# Altium footprint library OltestLib_popadjuk.PcbLib: 113 footprints (part 5 of 8)
Each footprint in its own frame and in the unit in brackets; x right, y up, seen from the top. Pads: shape width x height; smd on the part's side, far side on the other; paste and mask are expansions set on the pad; w line width, h text height; cw(c..) or ccw(c..) is an arc to the next point about the centre after c.
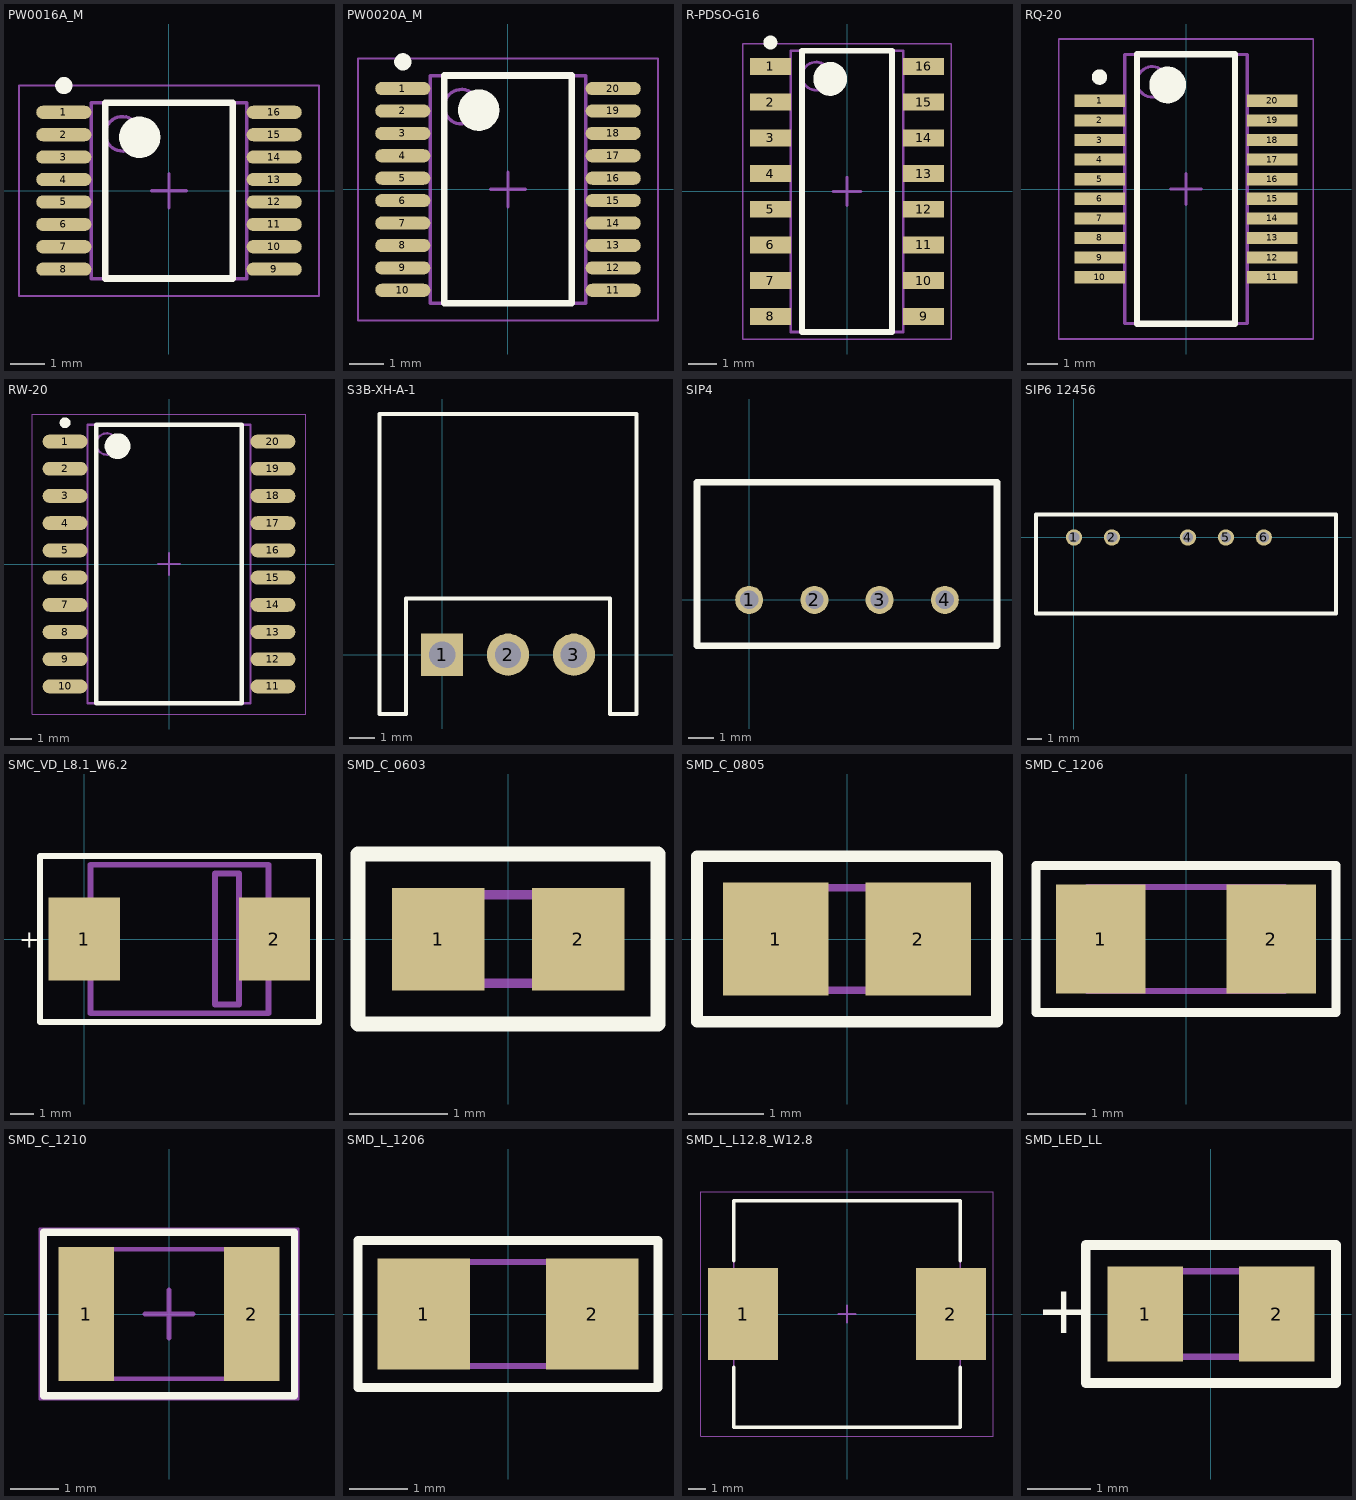
[diagram p4: the footprints below, top view; thin cyan lines are the x and y axes]

## PW0016A_M [mm] "SOP, 16-Leads, Body 5.1x4.5mm, Pitch 0.65mm, IPC Low Density"
height 1.2
pads (16):
  oval 1.6x0.381 smd: 1(-3.05,2.275) 2(-3.05,1.625) 3(-3.05,0.975) 4(-3.05,0.325) 5(-3.05,-0.325) 6(-3.05,-0.975) 7(-3.05,-1.625) 8(-3.05,-2.275) 9(3.05,-2.275) 10(3.05,-1.625) 11(3.05,-0.975) 12(3.05,-0.325) 13(3.05,0.325) 14(3.05,0.975) 15(3.05,1.625) 16(3.05,2.275)
Top Overlay:
  circle w0.25: c-3.05,3.05 r0.125
  circle w0.6: c-0.85,1.55 r0.3
  lines w0.2: -1.85,-2.55 -1.85,2.55 1.85,2.55 1.85,-2.55 -1.85,-2.55
Mechanical 13:
  circle w0.1: c-1.35,1.65 r0.5
  lines w0.1: -2.25,-2.55 -2.25,2.55 2.25,2.55 2.25,-2.55 -2.25,-2.55
Mechanical 15:
  lines w0.05: -4.35,-3.05 -4.35,3.05 4.35,3.05 4.35,-3.05 -4.35,-3.05
  lines w0.1: -0.5,0 0.5,0 ; 0,-0.5 0,0.5
3D body "PW0016AakaMTC16.stp": height 1.2, standoff 0, extent -3.21,-2.5 3.21,2.5

## PW0020A_M [mm] "SOP, 20-Leads, Body 6.6x4.5mm, Pitch 0.65mm, IPC Low Density"
height 1.2
pads (20):
  oval 1.6x0.381 smd: 1(-3.05,2.925) 2(-3.05,2.275) 3(-3.05,1.625) 4(-3.05,0.975) 5(-3.05,0.325) 6(-3.05,-0.325) 7(-3.05,-0.975) 8(-3.05,-1.625) 9(-3.05,-2.275) 10(-3.05,-2.925) 11(3.05,-2.925) 12(3.05,-2.275) 13(3.05,-1.625) 14(3.05,-0.975) 15(3.05,-0.325) 16(3.05,0.325) 17(3.05,0.975) 18(3.05,1.625) 19(3.05,2.275) 20(3.05,2.925)
Top Overlay:
  circle w0.6: c-0.85,2.3 r0.3
  circle w0.25: c-3.05,3.7 r0.125
  lines w0.2: -1.85,-3.3 1.85,-3.3 1.85,3.3 -1.85,3.3 -1.85,-3.3
Mechanical 13:
  circle w0.1: c-1.35,2.4 r0.5
  lines w0.1: -2.25,-3.3 2.25,-3.3 2.25,3.3 -2.25,3.3 -2.25,-3.3
Mechanical 15:
  lines w0.05: -4.35,-3.8 4.35,-3.8 4.35,3.8 -4.35,3.8 -4.35,-3.8
  lines w0.1: -0.5,0 0.5,0 ; 0,-0.5 0,0.5
3D body "PW0020AakaMTC20.stp": height 1.2, standoff 0, extent -3.21,-3.25 3.21,3.25

## R-PDSO-G16 [mm] "SOIC, 16-Leads, Body 9,90x3,90mm, Pitch 1,27mm, IPC Medium Density"
height 1.75
pads (16):
  rect 1.45x0.6 smd: 1(-2.725,4.445) 2(-2.725,3.175) 3(-2.725,1.905) 4(-2.725,0.635) 5(-2.725,-0.635) 6(-2.725,-1.905) 7(-2.725,-3.175) 8(-2.725,-4.445) 9(2.725,-4.445) 10(2.725,-3.175) 11(2.725,-1.905) 12(2.725,-0.635) 13(2.725,0.635) 14(2.725,1.905) 15(2.725,3.175) 16(2.725,4.445)
Top Overlay:
  circle w0.25: c-2.725,5.295 r0.125
  circle w0.6: c-0.6,4 r0.3
  lines w0.2: -1.6,-5 -1.6,5 1.6,5 1.6,-5 -1.6,-5
Mechanical 13:
  circle w0.1: c-1.1,4.1 r0.5
  lines w0.1: -2,-5 -2,5 2,5 2,-5 -2,-5
Mechanical 15:
  lines w0.05: -3.7,-5.25 -3.7,5.25 3.7,5.25 3.7,-5.25 -3.7,-5.25
  lines w0.1: -0.5,0 0.5,0 ; 0,-0.5 0,0.5
3D body: height 1.75, standoff 0.25, extent -2,-5 2,5

## RQ-20 [mm] "QSOP, 20-Leads, Body 8,66x3,91mm, Pitch 0,64mm, IPC Low Density"
height 1.75
pads (20):
  rect 1.65x0.4 smd: 1(-2.825,2.88) 2(-2.825,2.24) 3(-2.825,1.6) 4(-2.825,0.96) 5(-2.825,0.32) 6(-2.825,-0.32) 7(-2.825,-0.96) 8(-2.825,-1.6) 9(-2.825,-2.24) 10(-2.825,-2.88) 11(2.825,-2.88) 12(2.825,-2.24) 13(2.825,-1.6) 14(2.825,-0.96) 15(2.825,-0.32) 16(2.825,0.32) 17(2.825,0.96) 18(2.825,1.6) 19(2.825,2.24) 20(2.825,2.88)
Top Overlay:
  circle w0.25: c-2.825,3.655 r0.125
  circle w0.6: c-0.6,3.4 r0.3
  lines w0.2: -1.6,-4.4 -1.6,4.4 1.6,4.4 1.6,-4.4 -1.6,-4.4
Mechanical 13:
  circle w0.1: c-1.1,3.5 r0.5
  lines w0.1: -2,-4.4 -2,4.4 2,4.4 2,-4.4 -2,-4.4
Mechanical 15:
  lines w0.05: -4.15,-4.9 -4.15,4.9 4.15,4.9 4.15,-4.9 -4.15,-4.9
  lines w0.1: -0.5,0 0.5,0 ; 0,-0.5 0,0.5
3D body: height 1.75, standoff 0.25, extent -2,-4.4 2,4.4

## RW-20 [mm] "SOIC, 20-Leads, Body 12,80x7,50mm, Pitch 1,27mm, IPC Low Density"
height 2.65
pads (20):
  oval 2.1x0.65 smd: 1(-4.85,5.715) 2(-4.85,4.445) 3(-4.85,3.175) 4(-4.85,1.905) 5(-4.85,0.635) 6(-4.85,-0.635) 7(-4.85,-1.905) 8(-4.85,-3.175) 9(-4.85,-4.445) 10(-4.85,-5.715) 11(4.85,-5.715) 12(4.85,-4.445) 13(4.85,-3.175) 14(4.85,-1.905) 15(4.85,-0.635) 16(4.85,0.635) 17(4.85,1.905) 18(4.85,3.175) 19(4.85,4.445) 20(4.85,5.715)
Top Overlay:
  circle w0.6: c-2.4,5.5 r0.3
  circle w0.25: c-4.85,6.59 r0.125
  lines w0.2: -3.4,-6.5 3.4,-6.5 3.4,6.5 -3.4,6.5 -3.4,-6.5
Mechanical 13:
  circle w0.1: c-2.9,5.6 r0.5
  lines w0.1: -3.8,-6.5 3.8,-6.5 3.8,6.5 -3.8,6.5 -3.8,-6.5
Mechanical 15:
  lines w0.05: -6.375,-7 6.375,-7 6.375,7 -6.375,7 -6.375,-7
  lines w0.1: -0.5,0 0.5,0 ; 0,-0.5 0,0.5
3D body "SOIC127P1030X265-20M.step": height 2.65, standoff 0, extent -5.162,-6.5 5.162,6.5

## S3B-XH-A-1 [mil]
pads (3):
  rect 64x64 / inner round 0 / far side rect 64x64 hole 40 mask+5: 1(0,0)
  round 64 / inner round 0 / far side round 64 hole 40 mask+5: 2(100,0) 3(200,0)
Top Overlay:
  lines w6: -95,-90 -95,365 295,365 295,-90 255,-90 255,85 -55,85 -55,-90 -95,-90
3D body "S3B-XH-A.STEP": height 243.13, standoff -132.86, extent -94.88,-90.38 294.88,362.38

## SIP4 [mil]
pads (4):
  round 43 / inner round 0 / far side round 43 hole 28 mask+4: 1(0,0) 2(100,0) 3(200,0) 4(300,0)
Top Overlay:
  lines w10: -80,-70 -80,180 380,180 380,-70 -40,-70 -80,-70
3D body: height 400, standoff 0, extent -79.98,-69.98 379.98,179.98

## SIP6 12456 [mil]
pads (5):
  round 43 / inner round 0 / far side round 43 hole 28 mask+4: 1(0,0) 2(100,0) 4(300,0) 5(400,0) 6(500,0)
Top Overlay:
  lines w10: -100,-200 630,-200 690,-200 690,60 -100,60 -100,-200
3D body: height 400, standoff 0, extent -99.98,-199.98 689.98,59.98

## SMC_VD_L8.1_W6.2 [mil] "Schottky Diode, 2-Leads, Body 8,13x6,52mm, IPC Low Density"
pads (2):
  rect 120x140 smd: 1(0,0) 2(320,0)
Top Overlay:
  lines w10: -75,-140 395,-140 395,140 -75,140 -75,0 -75,-140
  text "+" at -110,-15 h30
Mechanical 13:
  lines w10: 0,-60 0,0 0,60 10,60 10,20 10,-20 10,-60 0,-60 ; 10,-125 280,-125 310,-125 310,125 280,125 10,125 10,10 10,-41.25 10,-83.75 10,-125 ; 220,-110 220,110 260,110 260,-110 220,-110 ; 310,-60 320,-60 320,60 310,60 310,-10 310,-60
3D body: height 50, standoff 0, extent 0.02,-59.98 9.98,59.98
3D body: height 50, standoff 0, extent 310.02,-59.98 319.98,59.98
3D body: height 107, standoff 105, extent 220.02,-109.98 259.98,109.98
3D body: height 105, standoff 0, extent 10.02,-124.98 309.98,124.98

## SMD_C_0603 [mil] "Chip Capacitor, 2-Leads, Body 1,60x0,80mm, IPC Low Density"
height 31.5
pads (2):
  rect 37x41 smd: 1(-28,0) 2(28,0)
Top Overlay:
  lines w6: -60,-34 60,-34 60,34 -60,34 -60,-34
Mechanical 13:
  lines w3.94: -33.46,-17.72 -33.46,17.72 33.46,17.72 33.46,-17.72 -33.46,-17.72
3D body "CAPC1608X08M.step": height 31.5, standoff 0, extent -33.46,-17.72 33.46,17.72

## SMD_C_0805 [mil] "Chip Capacitor, 2-Leads, Body 2,00x1,25mm, IPC Low Density"
height 23.62
pads (2):
  rect 55x59 smd: 1(-37,0) 2(37,0)
Top Overlay:
  lines w6: -78,-43 78,-43 78,43 -78,43 -78,-43
Mechanical 13:
  lines w3.94: -41.34,-26.57 41.34,-26.57 41.34,26.57 -41.34,26.57 -41.34,-26.57
3D body "CAPC2012X06M.step": height 23.62, standoff 0, extent -41.34,-26.57 41.34,26.57

## SMD_C_1206 [mil] "Chip Capacitor, 2-Leads, Body 3,20x1,60mm, IPC Low Density"
height 62.99
pads (2):
  rect 61x74 smd: 1(-58,0) 2(58,0)
Top Overlay:
  lines w6: -102,-50 102,-50 102,50 -102,50 -102,-50
Mechanical 13:
  lines w3.94: -66.93,-35.43 -66.93,35.43 66.93,35.43 66.93,-35.43 -66.93,-35.43
3D body "CAPC3216X16M.step": height 62.99, standoff 0, extent -66.93,-35.43 66.93,35.43

## SMD_C_1210 [mm] "Chip Capacitor, 2-Leads, Body 3,20x2,50mm, IPC Low Density"
height 2.5
pads (2):
  rect 1.15x2.8 smd: 1(-1.725,0) 2(1.725,0)
Top Overlay:
  lines w0.152: -2.616,-1.702 -2.616,1.702 2.616,1.702 2.616,-1.702 -2.616,-1.702
Mechanical 13:
  lines w0.1: -1.75,-1.35 1.75,-1.35 1.75,1.35 -1.75,1.35 -1.75,-1.35
Mechanical 15:
  lines w0.05: -2.692,-1.778 2.692,-1.778 2.692,1.778 -2.692,1.778 -2.692,-1.778
  lines w0.1: -0.5,0 0.5,0 ; 0,-0.5 0,0.5
3D body "CAPC3225X25M.step": height 2.5, standoff 0, extent -1.75,-1.35 1.75,1.35

## SMD_L_1206 [mm] "Chip Inductor, 2-Leads, Body 3,20x1,60mm, IPC Low Density"
height 1.1
pads (2):
  rect 1.59x1.92 smd: 1(-1.455,0) 2(1.455,0)
Top Overlay:
  lines w0.152: -2.591,-1.27 -2.591,1.27 2.591,1.27 2.591,-1.27 -2.591,-1.27
Mechanical 13:
  lines w0.1: -1.7,-0.9 1.7,-0.9 1.7,0.9 -1.7,0.9 -1.7,-0.9
3D body "INDC3216X11M.step": height 1.1, standoff 0, extent -1.7,-0.9 1.7,0.9

## SMD_L_L12.8_W12.8 [mil] "Precision Wire Wound Inductor, 2-Leads, Body 12,80x12,80mm, IPC Low Density"
height 314.96
pads (2):
  rect 155x205 smd: 1(-231.3,0) 2(231.3,0)
Top Overlay:
  lines w7.87: -251.97,-118.11 -251.97,-251.97 251.97,-251.97 251.97,-118.11 ; -251.97,118.11 -251.97,251.97 251.97,251.97 251.97,118.11
Mechanical 13:
  lines w3.94: -251.97,-251.97 -251.97,251.97 251.97,251.97 251.97,-251.97 -251.97,-251.97
Mechanical 15:
  lines w1.97: -325,-271.65 -325,271.65 325,271.65 325,-271.65 -325,-271.65
  lines w3.94: -19.68,0 19.69,0 ; 0,-19.68 0,19.68
3D body "INDP128128X80M.step": height 318.9, standoff 0, extent -255.91,-251.97 255.91,251.97

## SMD_LED_LL [mil] "Chip Diode, 2-Leads, Body 2,00x1,25mm, IPC Low Density"
height 31.5
pads (2):
  rect 47x59 smd: 1(-41,0) 2(41,0)
Top Overlay:
  lines w6: -78,-43 -78,43 78,43 78,-43 -78,-43
  text "+" at -109,-12 h30
Mechanical 13:
  lines w3.94: -41.34,-26.57 -41.34,26.57 41.34,26.57 41.34,-26.57 -41.34,-26.57
3D body: height 31.5, standoff 0, extent -25.59,-26.57 25.59,26.57
3D body: height 31.5, standoff 0, extent -41.34,-26.57 -25.59,26.57
3D body: height 31.5, standoff 0, extent 25.59,-26.57 41.34,26.57